# Altium schematic symbol library БУС.SchLib: 46 symbols
Pins are listed as number, name and electrical type; pins without a type are passive.

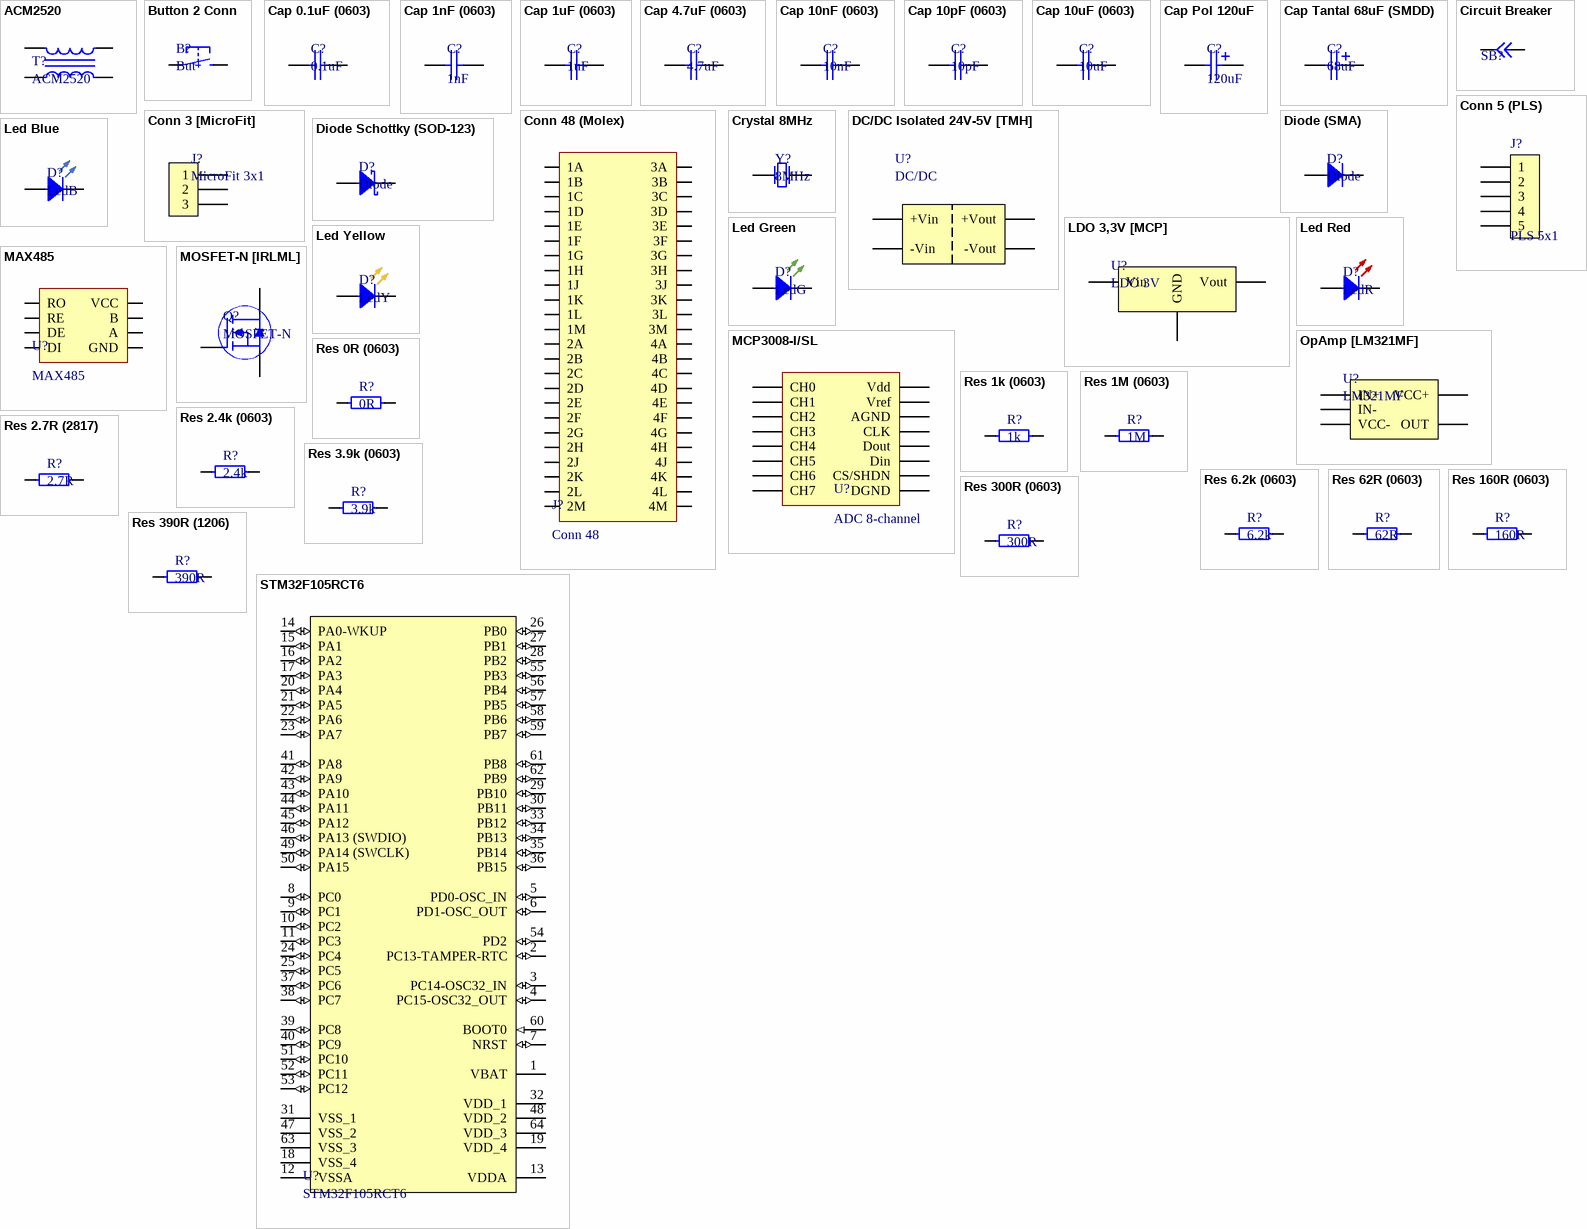
[diagram p0: symbols ACM2520 to STM32F105RCT6]

## ACM2520
designator T?
Common mode filters / Automotive signal line (for power train/safety); Manufacturer: TDK; Part Number: ACM2520-301-2P-T002; Type: Inductor; ComponentLink1Description: DataSheet; ComponentLink1URL: https://product.tdk.com/system/files/dam/doc/product/emc/emc/cmf_cmc/catalog/cmf_commercial_signal_acm2520_en.pdf; ComponentLink2Description: ChipDip; ComponentLink2URL: https://www.chipdip.ru/product0/8008480337?ysclid=lw4t4jsj9a923851487
footprint ACM2520
pins: 1, 2, 3, 4

## Button 2 Conn
designator B?, comment But
Button 2 Conn SMD; Part Number: L-KLS7-TS3608-5.0-180; Manufacturer: KLS electronic co ltd; Type: Button; ComponentLink1Description: Chip&Dip; ComponentLink1URL: https://www.chipdip.ru/product/kls7-ts3608-5.0-180-td-02xa
footprint BUTTON 6x3.5
pins: 1, 2

## Cap 0.1uF (0603)
designator C?, comment 0.1uF
0.1uF X7R 16V 10% 0603; Manufacturer: Murata Manufacturing; Part Number: GRM188R71C104KA01D; Type: Capacitor; ComponentLink1Description: Chip&Dip; ComponentLink1URL: https://www.chipdip.ru/product/grm188r71c104ka01d
footprint 0603 Capicator
pins: 1, 2

## Cap 1nF (0603)
designator C?, comment 1nF
X7R 1nF 100V 10% 0603; Manufacturer: Murata Manufacturing; Part Number: GRM188R72A102KA01D; Type: Capacitor; ComponentLink1Description: Chip&Dip; ComponentLink1URL: https://www.chipdip.ru/product/grm188r72a102ka01d
footprint 0603 Capicator
pins: 1, 2

## Cap 1uF (0603)
designator C?, comment 1uF
1uF X5R 25V 10% 0603; Manufacturer: Murata Manufacturing; Part Number: GRM188R61E105KAADD; Type: Capacitor; ComponentLink1Description: Chip&Dip; ComponentLink1URL: https://www.chipdip.ru/product/grm188r61e105k
footprint 0603 Capicator
pins: 1, 2

## Cap 4.7uF (0603)
designator C?, comment 4.7uF
4.7uF X5R 25V 10% 0603; Manufacturer: Murata Manufacturing; Part Number: GRM188R61E475KE11D; Type: Capacitor; ComponentLink1Description: Chip&Dip; ComponentLink1URL: https://www.chipdip.ru/product0/9000348448
footprint 0603 Capicator
pins: 1, 2

## Cap 10nF (0603)
designator C?, comment 10nF
10nF X7R  100V 10% 0603; Manufacturer: Murata Manufacturing; Part Number: GRM188R72A103KA01D; Type: Capacitor; ComponentLink1Description: Chip&Dip; ComponentLink1URL: https://www.chipdip.ru/product/grm188r72a103ka01d
footprint 0603 Capicator
pins: 1, 2

## Cap 10pF (0603)
designator C?, comment 10pF
10pF NP0 50V 5% 0603; Manufacturer: Murata Manufacturing; Part Number: GRM1885C1H100JA01D; Type: Capacitor; ComponentLink1Description: Chip&Dip; ComponentLink1URL: https://www.chipdip.ru/product/grm1885c1h100j
footprint 0603 Capicator
pins: 1, 2

## Cap 10uF (0603)
designator C?, comment 10uF
10uF X5R 25V 20% 0603; Manufacturer: Murata Manufacturing; Part Number: GRM188R61E106M; Type: Capacitor; ComponentLink1Description: Chip&Dip; ComponentLink1URL: https://www.chipdip.ru/product/grm188r61e106m
footprint 0603 Capicator
pins: 1, 2

## Cap Pol 120uF
designator C?, comment 120uF
Polymer capacitor with low E.S.R. Rated voltage - 80V.; Manufacturer: Matsushita; PartNumber: EEU-FS1K121LB; Type: Capacitor; ComponentLink1Description: ChipDip; ComponentLink1URL: https://www.chipdip.ru/product0/8001968680
footprint Bar Cap 8 mm
pins: 1, 2

## Cap Tantal 68uF (SMDD)
designator C?, comment 68uF
TECAP, 68uF, 16V, case D, 10%; Part Number: TECAP68/16VD10; Manufacturer: China; Type: Capacitor; ComponentLink1Description: Chip&Dip; ComponentLink1URL: https://www.chipdip.ru/product0/979125339
footprint TANTAL_D_CASE
pins: 1, 2

## Circuit Breaker
designator SB?  (value not drawn)
footprint SB 0603 (Jumper)
pins: 1, 2

## Conn 3 [MicroFit]
designator J?, comment MicroFit 3x1
Micro-Fit 3.0 Right-Angle Header, 3.00mm Pitch, Single Row, 3 Circuits, with Snap-in Plastic Peg PCB Lock, Tin, Glow-Wire Capable, Black; Part Number: 436500300; Manufacturer: Molex; ComponentLink1Description: Molex; ComponentLink1URL: https://www.molex.com/molex/products/part-detail/pcb_headers/0436500300; Type: Connector
footprint MolexMicroFit 3x1
pins: 1, 2, 3

## Conn 5 (PLS)
designator J?, comment PLS 5x1
Header, 5-Pin
footprint PLS 5x1 (Connector; Header; 5 Position)
pins: 1, 2, 3, 4, 5

## Conn 48 (Molex)
designator J?, comment Conn 48
Molec 48 pin PCB Header 5007620481; Manufacturer: Molex; Type: Connector; Part Number: 5007620481; ComponentLink1Description: ChipDip; ComponentLink1URL: https://www.chipdip.ru/product0/8004298252; ComponentLink2Description: Promelec; ComponentLink2URL: https://www.promelec.ru/product/427663/; ComponentLink3Description: Datasheet; ComponentLink3URL: https://static.chipdip.ru/lib/148/DOC030148367.pdf
footprint 5007620481 (Molex PCB Header 48 pin)
pins: 1A, 1B, 1C, 1D, 1E, 1F, 1G, 1H, 1J, 1K, 1L, 1M, 2A, 2B, 2C, 2D, 2E, 2F, 2G, 2H, 2J, 2K, 2L, 2M, 3A, 3B, 3C, 3D, 3E, 3F, 3G, 3H, 3J, 3K, 3L, 3M, 4A, 4B, 4C, 4D, 4E, 4F, 4G, 4H, 4J, 4K, 4L, 4M

## Crystal 8MHz
designator Y?, comment 8MHz
Crystal NX5032GA; Manufacturer: Nihon Dempa Kogio (NDK); Part Number: NX5032GA-8MHz; Type: Crystal; ComponentLink1Description: Chip&Dip; ComponentLink1URL: https://www.chipdip.ru/product0/9000523954
footprint NX5032GA (Crystal)
pins: 1, 2

## DC/DC Isolated 24V-5V [TMH]
designator U?, comment DC/DC
The TMH series are ultra miniature, isolated 2 Watt DC/DC-converters in a Single-in-Line  package  (SIP); Manufacturer: Traco Power; Part Number: TMH2405S; ComponentLink1Description: Chip&Dip; ComponentLink1URL: https://www.chipdip.ru/product/tmh-2405s; ComponentLink2Description: DataSheet; ComponentLink2URL: https://static.chipdip.ru/lib/005/DOC001005854.pdf; Type: IC
footprint SIP7
pins: 1 +Vin (power), 2 -Vin (power), 4 -Vout (power), 6 +Vout (power)

## Diode (SMA)
designator D?, comment Diode
1A 1000V, (DO-214AC/SMA); Part Number: 1N4007; Manufacturer: UMW; Type: Diode; ComponentLink1Description: DataSheet; ComponentLink1URL: https://static.chipdip.ru/lib/152/DOC001152906.pdf; ComponentLink2Description: Chip&Dip; ComponentLink2URL: https://www.chipdip.ru/product/1n4007-m7
footprint SMA
pins: 1, 2

## Diode Schottky (SOD-123)
designator D?, comment Diode
0.5 A, Low Forward Voltage less than 385 mV, 400 mW Power Dissipation Package; Part Number: MBR0520L; Manufacturer: ON Semiconductor; Type: Diode; ComponentLink1Description: DataSheet; ComponentLink1URL: http://www.farnell.com/datasheets/1875336.pdf; ComponentLink2Description: Chip&Dip; ComponentLink2URL: https://www.chipdip.ru/product/mbr0520l
footprint sod-123
pins: 1, 2

## LDO 3,3V [MCP]
designator U?, comment LDO 3V
MCP1702 Low Dropout Voltage Regulator. The input operating range is specifiedfrom 2.7V to 13.2V; Part Number: MCP1702T-3002E/CB; Manufacturer: Microchip; ComponentLink1Description: DataSheet; ComponentLink1URL: https://static.chipdip.ru/lib/986/DOC003986671.pdf; ComponentLink2Description: Chip&Dip; ComponentLink2URL: https://www.chipdip.ru/product/mcp1702t-3002e-cb-microchip
footprint SOT-23
pins: 1 GND (power), 2 Vout (power), 3 Vin (power)

## Led Blue
designator D?, comment LedB
SMD 1608, 112mcd, 120°, 630nM (Ultra Bright Blue); Part Number: TO-1608BC-MRE; Manufacturer: Taiwan Oasis Technology; Type: Diode; ComponentLink1Description: Chip&Dip; ComponentLink1URL: https://www.chipdip.ru/product/to-1608bc-mre
footprint 0603 LED
pins: 1, 2

## Led Green
designator D?, comment LedG
Led Green SMD 1608, 120°, 525nM; Part Number: TO-1608BC-PG; Manufacturer: Taiwan Oasis Technology; Type: Diode; ComponentLink1Description: Chip&Dip; ComponentLink1URL: https://www.chipdip.ru/product/to-1608bc-pg
footprint 0603 LED
pins: 1, 2

## Led Red
designator D?, comment LedR
SMD 1608, 112mcd, 120°, 630nM (Ultra Bright Red); Part Number: TO-1608BC-MRE; Manufacturer: Taiwan Oasis Technology; Type: Diode; ComponentLink1Description: Chip&Dip; ComponentLink1URL: https://www.chipdip.ru/product/to-1608bc-mre
footprint 0603 LED
pins: 1, 2

## Led Yellow
designator D?, comment LedY
SMD 1608, 247mcd, 120°, 592nM (High Bright Yellow); Part Number: TO-1608BC-MYF; Manufacturer: Taiwan Oasis Technology; Type: Diode; ComponentLink1Description: Chip&Dip; ComponentLink1URL: https://www.chipdip.ru/product/to-1608bc-myf
footprint 0603 LED
pins: 1, 2

## MAX485
designator U?
RS-485 tranciever; Manufacturer: Maxim; Part Number: MAX485CSA+T; Type: IC; ComponentLink1Description: ChipDip; ComponentLink1URL: https://www.chipdip.ru/product/max485csa; ComponentLink2Description: Datasheet; ComponentLink2URL: https://static.chipdip.ru/lib/222/DOC000222333.pdf
footprint SOIC-8
pins: 1 RO, 2 RE, 3 DE, 4 DI, 5 GND, 6 A, 7 B, 8 VCC

## MCP3008-I/SL
designator U?, comment ADC 8-channel
A/D converter with SPI serial interface; Manufacturer: Microchip; Part Number: MCP3008-I/SL; Type: IC; ComponentLink1Description: ChipDip; ComponentLink1URL: https://www.chipdip.ru/product/mcp3008-i-sl; ComponentLink2Description: Datadheet; ComponentLink2URL: https://static.chipdip.ru/lib/527/DOC011527685.pdf
footprint SOIC-16
pins: 1 CH0, 2 CH1, 3 CH2, 4 CH3, 5 CH4, 6 CH5, 7 CH6, 8 CH7, 9 DGND, 10 CS/SHDN, 11 Din, 12 Dout, 13 CLK, 14 AGND, 15 Vref, 16 Vdd

## MOSFET-N [IRLML]
designator Q?, comment MOSFET-N
VDS 30V,  VGS Max ± 20V, RDS 27-40mΩ,; Part Number: IRLML0030TRPBF; Manufacturer: Infineon Technologies; Type: Transistor; ComponentLink1Description: DataSheet; ComponentLink1URL: https://static.chipdip.ru/lib/300/DOC000300382.pdf; ComponentLink2Description: Chip&Dip; ComponentLink2URL: https://www.chipdip.ru/product/irlml0030trpbf
footprint SOT-23
pins: 1 Gate, 2 Source, 3 Drain

## OpAmp [LM321MF]
designator U?, comment LM321MF
Operational amplifier 30V; Manufacturer: UMW; Part Number: LM321MF; ComponentLink1Description: DataSheet; ComponentLink1URL: https://static.chipdip.ru/lib/039/DOC013039458.pdf; ComponentLink2Description: Chip&Dip; ComponentLink2URL: https://www.chipdip.ru/product/lm321mf; Type: IC
footprint SOT-23-5
pins: 1 IN+, 2 VCC-, 3 IN-, 4 OUT, 5 VCC+

## Res 0R (0603)
designator R?, comment 0R
0.1W 0603 0R, 5%; Part Number: RC0603JR-070RL; Manufacturer: Taiwan; Type: Resistor; ComponentLink1Description: Chip&Dip; ComponentLink1URL: https://www.chipdip.ru/product0/9000070541
footprint 0603 Resistor
pins: 1, 2

## Res 1k (0603)
designator R?, comment 1k
0.1W 0603 1k, 1%; Part Number: RC0603FR-071KL; Manufacturer: Taiwan; Type: Resistor; ComponentLink1Description: Chip&Dip; ComponentLink1URL: https://www.chipdip.ru/product0/9000079676
footprint 0603 Resistor
pins: 1, 2

## Res 1M (0603)
designator R?, comment 1M
0.1W 0603 1M, 1%; Part Number: RC0603FR-071ML; Manufacturer: Taiwan; Type: Resistor; ComponentLink1Description: Chip&Dip; ComponentLink1URL: https://www.chipdip.ru/product0/9000079784
footprint 0603 Resistor
pins: 1, 2

## Res 2.4k (0603)
designator R?, comment 2.4k
0.1W 0603 2.4k, 1%; Part Number: RC0603FR-072K4L; Manufacturer: Taiwan; Type: Resistor; ComponentLink1Description: Chip&Dip; ComponentLink1URL: https://www.chipdip.ru/product0/9000079721
footprint 0603 Resistor
pins: 1, 2

## Res 2.7R (2817)
designator R?, comment 2.7R
2W 2817 2.7R, 1%; Part Number: 35402R7FT; Manufacturer: TE Connectivity; Type: Resistor; ComponentLink1Description: Chip&Dip; ComponentLink1URL: https://www.chipdip.ru/product/35402r7ft
footprint 2817 RESISTOR (smd)
pins: 1, 2

## Res 3.9k (0603)
designator R?, comment 3.9k
0.1W 0603 3.9k, 1%; Part Number: RC0603FR-073K9L; Manufacturer: Taiwan; Type: Resistor; ComponentLink1Description: Chip&Dip; ComponentLink1URL: https://www.chipdip.ru/product0/9000079726
footprint 0603 Resistor
pins: 1, 2

## Res 6.2k (0603)
designator R?, comment 6.2k
0.1W 0603 6.2k, 1%; Part Number: RC0603FR-076K2L; Manufacturer: Taiwan; Type: Resistor; ComponentLink1Description: Chip&Dip; ComponentLink1URL: https://www.chipdip.ru/product/0.1w-0603-6.2-kom-1
footprint 0603 Resistor
pins: 1, 2

## Res 62R (0603)
designator R?, comment 62R
0.1W 0603 62R, 1%; Part Number: RC0603FR-0762RL; Manufacturer: Taiwan; Type: Resistor; ComponentLink1Description: Chip&Dip; ComponentLink1URL: https://www.chipdip.ru/product0/9000079611
footprint 0603 Resistor
pins: 1, 2

## Res 160R (0603)
designator R?, comment 160R
0.1W 0603 160R, 1%; Part Number: RC0603FR-07160RL; Manufacturer: Taiwan; Type: Resistor; ComponentLink1Description: Chip&Dip; ComponentLink1URL: https://www.chipdip.ru/product/0.1w-0603-160-om-1
footprint 0603 Resistor
pins: 1, 2

## Res 300R (0603)
designator R?, comment 300R
0.1W 0603 300R, 1%; Part Number: RC0603FR-07360RL; Manufacturer: Taiwan; Type: Resistor; ComponentLink1Description: Chip&Dip; ComponentLink1URL: https://www.chipdip.ru/product0/9000079629
footprint 0603 Resistor
pins: 1, 2

## Res 390R (1206)
designator R?, comment 390R
0.25W 1206 390R; Part Number: RC1206JR-07390KL; Manufacturer: Taiwan; Type: Resistor; ComponentLink1Description: Chip&Dip; ComponentLink1URL: https://www.chipdip.ru/product0/8023504304
footprint 1206 RESISTOR (smd)
pins: 1, 2

## STM32F105RCT6
designator U?
MCU ARM 256KB FLASH MEM 64-LQFP; Manufacturer: STMicroelectronics; Part Number: STM32F105RCT6; ComponentLink1Description: DataSheet; ComponentLink1URL: https://static.chipdip.ru/lib/375/DOC011375072.pdf; ComponentLink2Description: Chip&Dip; ComponentLink2URL: https://www.chipdip.ru/product/stm32f105rct6; Type: IC
footprint LQFP64
pins: 1 VBAT (power), 2 PC13-TAMPER-RTC (io) "PC13-TAMPER-RTC/PC13/TAMPER-RTC", 3 PC14-OSC32_IN (io) "PC14-OSC32_IN/PC14/OSC32_IN", 4 PC15-OSC32_OUT (io) "PC15-OSC32_OUT/PC15/OSC32_OUT", 5 PD0-OSC_IN (io) "PD0/OSC_IN", 6 PD1-OSC_OUT (io) "PD1/OSC_OUT", 7 NRST (io), 8 PC0 (io) "PC0/ADC12_IN10", 9 PC1 (io) "PC1/ADC12_IN11/ETH_MII_MDC/ETH_RMII_MDC", 10 PC2 (io) "PC2/ADC12_IN12/ETH_MII_TXD2", 11 PC3 (io) "PC3/ADC12_IN13/ETH_MII_TX_CLK", 12 VSSA (power), 13 VDDA (power), 14 PA0-WKUP (io) "PA0-WKUP/PA0/WKUP/USART2_CTS/ADC12_IN0/TIM2_CH1_ETR/TIM5_CH1/ETH_MII_CRS_WKUP", 15 PA1 (io) "PA1/USART2_RTS/ADC12_IN1/TIM5_CH2/TIM2_CH2/ETH_MII_RX_CLK/ETH_RMII_REF_CLK", 16 PA2 (io) "PA2/USART2_TX/TIM5_CH3/ADC12_IN2/TIM2_CH3/ETH_MII_MDIO/ETH_RMII_MDIO", 17 PA3 (io) "PA3/USART2_RX/TIM5_CH4/ADC12_IN3/TIM2_CH4/ETH_MII_COL", 18 VSS_4 (power), 19 VDD_4 (power), 20 PA4 (io) "PA4/SPI1_NSS/DAC_OUT1/USART2_CK/ADC12_IN4/SPI3_NSS/I2S3_WS", 21 PA5 (io) "PA5/SPI1_SCK/DAC_OUT2/ADC12_IN5", 22 PA6 (io) "PA6/SPI1_MISO/ADC12_IN6/TIM3_CH1/TIM1_BKIN", 23 PA7 (io) "PA7/SPI1_MOSI/ADC12_IN7/TIM3_CH2/ETH_MII_RX_DV/ETH_RMII_CRS_DV/TIM1_CH1N", 24 PC4 (io) "PC4/ADC12_IN14/ETH_MII_RXD0/ETH_RMII_RXD0", 25 PC5 (io) "PC5/ADC12_IN15/ETH_MII_RXD1/ETH_RMII_RXD1", 26 PB0 (io) "PB0/ADC12_IN8/TIM3_CH3/ETH_MII_RXD2/TIM1_CH2N", 27 PB1 (io) "PB1/ADC12_IN9/TIM3_CH4/ETH_MII_RXD3/TIM1_CH3N", 28 PB2 (io) "PB2/BOOT1", 29 PB10 (io) "PB10/I2C2_SCL/USART3_TX/ETH_MII_RX_ER/TIM2_CH3", 30 PB11 (io) "PB11/I2C2_SDA/USART3_RX/ETH_MII_TX_EN/ETH_RMII_TX_EN/TIM2_CH4", 31 VSS_1 (power), 32 VDD_1 (power), 33 PB12 (io) "PB12/SPI2_NSS/I2S2_WS/I2C2_SMBA/USART3_CK/TIM1_BKIN/CAN2_RX/ETH_MII_TXD0/ETH_RMII_TXD0", 34 PB13 (io) "PB13/SPI2_SCK/I2S2_CK/USART3_CTS/TIM1_CH1N/CAN2_TX/ETH_MII_TXD1/ETH_RMII_TXD1", 35 PB14 (io) "PB14/SPI2_MISO/TIM1_CH2N/USART3_RTS", 36 PB15 (io) "PB15/SPI2_MOSI/I2S2_SD/TIM1_CH3N", 37 PC6 (io) "PC6/I2S2_MCK/TIM3_CH1", 38 PC7 (io) "PC7/I2S3_MCK/TIM3_CH2", 39 PC8 (io) "PC8/TIM3_CH3", 40 PC9 (io) "PC9/TIM3_CH4", 41 PA8 (io) "PA8/USART1_CK/OTG_FS_SOF/TIM1_CH1/MCO", 42 PA9 (io) "PA9/USART1_TX/TIM1_CH2/OTG_FS_VBUS", 43 PA10 (io) "PA10/USART1_RX/TIM1_CH3/OTG_FS_ID", 44 PA11 (io) "PA11/USART1_CTS/CAN1_RX/TIM1_CH4/OTG_FS_DM", 45 PA12 (io) "PA12/USART1_RTS/OTG_FS_DP/CAN1_TX/TIM1_ETR", 46 PA13 (SWDIO) (io) "PA13/JTMS-SWDIO", 47 VSS_2 (power), 48 VDD_2 (power), 49 PA14 (SWCLK) (io) "PA14/JTCK-SWCLK", 50 PA15 (io) "PA15/JTDI/SPI3_NSS/I2S3_WS/TIM2_CH1_ETR/SPI1_NSS", 51 PC10 (io) "PC10/UART4_TX/USART3_TX/SPI3_SCK/I2S3_CK", 52 PC11 (io) "PC11/UART4_RX/USART3_RX/SPI3_MISO", 53 PC12 (io) "PC12/UART5_TX/USART3_CK/SPI3_MOSI/I2S3_SD", 54 PD2 (io) "PD2/TIM3_ETR/UART5_RX", 55 PB3 (io) "PB3/JTDO/SPI3_SCK/I2S3_CK/TRACESWO/TIM2_CH2/SPI1_SCK", 56 PB4 (io) "PB4/NJTRST/SPI3_MISO/TIM3_CH1/SPI1_MISO", 57 PB5 (io) "PB5/I2C1_SMBA/SPI3_MOSI/ETH_MII_PPS_OUT/I2S3_SD/ETH_RMII_PPS_OUT/TIM3_CH2/SPI1_MOSI/CAN2_RX", 58 PB6 (io) "PB6/I2C1_SCL/TIM4_CH1/USART1_TX/CAN2_TX", 59 PB7 (io) "PB7/I2C1_SDA/TIM4_CH2/USART1_RX", 60 BOOT0 (in), 61 PB8 (io) "PB8/TIM4_CH3/ETH_MII_TXD3/I2C1_SCL/CAN1_RX", 62 PB9 (io) "PB9/TIM4_CH4/I2C1_SDA/CAN1_TX", 63 VSS_3 (power), 64 VDD_3 (power)

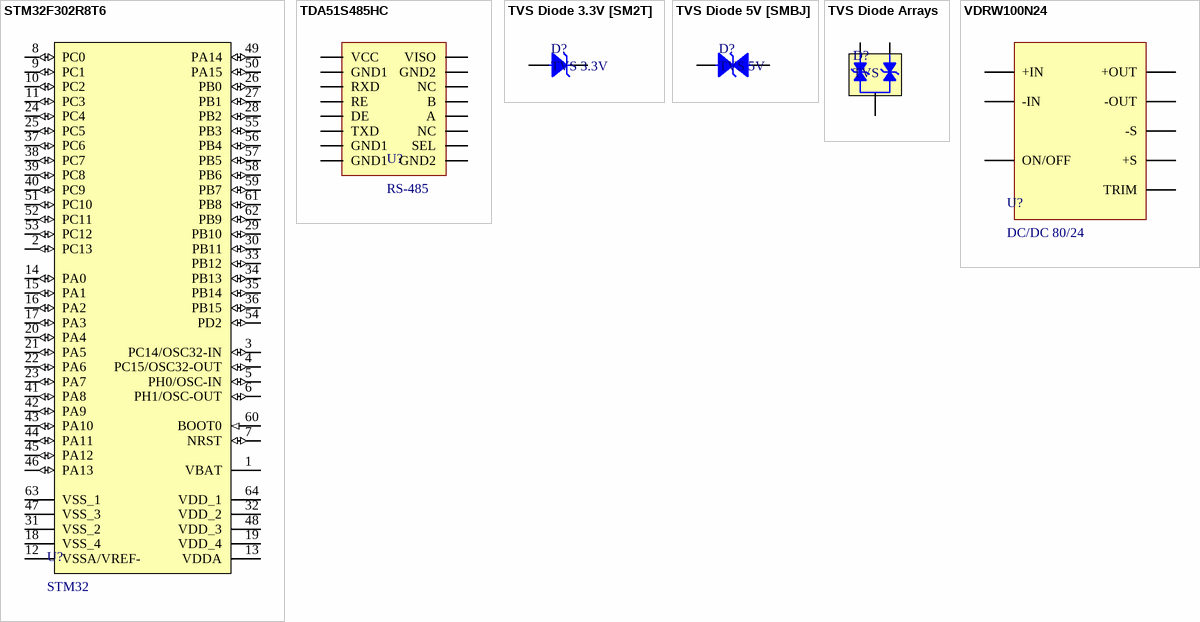
[diagram p1: symbols STM32F302R8T6 to VDRW100N24]

## STM32F302R8T6
designator U?, comment STM32
STM32F302R8T6 microcontroller in LQFP64 package; Manufacturer: STMicroelectronics; Type: Microcontroller; ComponentLink1Description: ChipDip; ComponentLink1URL: https://www.chipdip.ru/product0/8026343767; ComponentLink2Description: Datasheet; ComponentLink2URL: https://static.chipdip.ru/lib/171/DOC013171755.pdf; Part Number: STM32F302R8T6
footprint LQFP64
pins: 1 VBAT (power) "Backup power supply", 2 PC13 (io) "PA13/USART3_CTS,TIM4_CH3,TIM16_CH1N,TSC_G4_IO3,IR_OUT,SWDIO-JTMS,EVENTOUT", 3 PC14/OSC32-IN (io) "PA14/I2C1_SDA,USART2_TX,TIM8_CH2,TIM1_BKIN,TSC_G4_IO4,SWCLK-JTCK,EVENTOUT", 4 PC15/OSC32-OUT (io) "PA15/I2C1_SCL,SPI1_NSS,SPI3_NSS,I2S3_WS,JTDI,USART2_RX,TIM1_BKIN,TIM2_CH1_ETR,TIM8_CH1,EVENTOUT", 5 PH0/OSC-IN (io) "PF4/COMP1_OUT,EVENTOUT/ADC1_IN5", 6 PH1/OSC-OUT (io) "PC14-OSC32_IN(PC14)/OSC32_IN", 7 NRST (io) "Device reset input / internal reset output (active low)", 8 PC0 (io) "PA0/USART2_CTS,TIM2_CH1_ETR,TIM8_BKIN,TIM8_ETR,TSC_G1_IO1,COMP1_OUT,EVENTOUT/ADC1_IN1,COMP1_INM,RTC_TAMP2,WKUP1,COMP7_INP", 9 PC1 (io) "PA1/USART2_RTS,TIM2_CH2,TSC_G1_IO2,TIM15_CH1N,RTC_REFIN,EVENTOUT/ADC1_IN2,COMP1_INP,OPAMP1_VINP,OPAMP3_VINP", 10 PC2 (io) "PA2/USART2_TX,TIM2_CH3,TIM15_CH1,TSC_G1_IO3,COMP2_OUT,EVENTOUT/ADC1_IN3,COMP2_INM,OPAMP1_VOUT", 11 PC3 (io) "PA3/USART2_RX,TIM2_CH4,TIM15_CH2,TSC_G1_IO4,EVENTOUT/ADC1_IN4,OPAMP1_VINP,COMP2_INP,OPAMP1_VINM", 12 VSSA/VREF- (power) "Analog ground/Negative reference voltage", 13 VDDA (power) "Analog power supply/Positive reference voltage", 14 PA0 (io) "PC0/EVENTOUT/ADC12_IN6,COMP7_INM", 15 PA1 (io) "PC1/EVENTOUT/ADC12_IN7,COMP7_INP", 16 PA2 (io) "PC2/COMP7_OUT,EVENTOUT/ADC12_IN8", 17 PA3 (io) "PC3/TIM1_BKIN2,EVENTOUT/ADC12_IN9", 18 VSS_4 (power) "Digital ground", 19 VDD_4 (power) "Digital power supply", 20 PA4 (io) "PC4/USART1_TX,EVENTOUT/ADC2_IN5", 21 PA5 (io) "PC5/USART1_RX,TSC_G3_IO1,EVENTOUT/ADC2_IN11,OPAMP2_VINM,OPAMP1_VINM", 22 PA6 (io) "PC7/I2S3_MCK,TIM8_CH2,TIM3_CH2,COMP5_OUT,EVENTOUT", 23 PA7 (io) "PC6/I2S2_MCK,COMP6_OUT,TIM8_CH1,TIM3_CH1,EVENTOUT", 24 PC4 (io) "PA4/SPI1_NSS,SPI3_NSS,I2S3_WS,USART2_CK,TSC_G2_IO1,TIM3_CH2,EVENTOUT/ADC2_IN1,DAC1_OUT1,OPAMP4_VINP,COMP1_INM,COMP2_INM,COMP3_INM,COMP4_INM,COMP5_INM,COMP6_INM,COMP7_INM", 25 PC5 (io) "PA5/SPI1_SCK,TIM2_CH1_ETR,TSC_G2_IO2,EVENTOUT/ADC2_IN2,DAC1_OUT2,OPAMP1_VINP,OPAMP2_VINM,OPAMP3_VINP,COMP1_INM,COMP2_INM,COMP3_INM,COMP4_INM,COMP5_INM,COMP6_INM,COMP7_INM", 26 PB0 (io) "PB2/TSC_G3_IO4,EVENTOUT/ADC2_IN12,COMP4_INM,OPAMP3_VINM", 27 PB1 (io) "PB3/SPI3_SCK,I2S3_CK,SPI1_SCK,USART2_TX,TIM2_CH2,TIM3_ETR,TIM4_ETR,TIM8_CH1N,TSC_G5_IO1,JTDO-TRACESWO,EVENTOUT", 28 PB2 (io) "PB4/SPI3_MISO,I2S3ext_SD,SPI1_MISO,USART2_RX,TIM3_CH1,TIM16_CH1,TIM17_BKIN,TIM8_CH2N,TSC_G5_IO2,NJTRST,EVENTOUT", 29 PB10 (io) "PB12/SPI2_NSS,I2S2_WS,I2C2_SMBA,USART3_CK,TIM1_BKIN,TSC_G6_IO2,EVENTOUT/ADC4_IN3,COMP3_INM,OPAMP4_VOUT", 30 PB11 (io) "Analog power supply/Positive reference voltage", 31 VSS_2 (power) "Digital ground", 32 VDD_2 (power) "Digital power supply", 33 PB12 (io) "PB13/SPI2_SCK,I2S2_CK,USART3_CTS,TIM1_CH1N,TSC_G6_IO3,EVENTOUT/ADC3_IN5,COMP5_INP,OPAMP4_VINP,OPAMP3_VINP", 34 PB13 (io) "PB14/SPI2_MISO,I2S2ext_SD,USART3_RTS,TIM1_CH2N,TIM15_CH1,TSC_G6_IO4,EVENTOUT/COMP3_INP,ADC4_IN4,OPAMP2_VINP", 35 PB14 (io) "PB15/SPI2_MOSI,I2S2_SD,TIM1_CH3N,RTC_REFIN,TIM15_CH1N,TIM15_CH2,EVENTOUT/ADC4_IN5,COMP6_INM", 36 PB15 (io) "PD2/UART5_RX,TIM3_ETR,TIM8_BKIN,EVENTOUT", 37 PC6 (io) "PA6/SPI1_MISO,TIM3_CH1,TIM8_BKIN,TIM1_BKIN,TIM16_CH1,COMP1_OUT,TSC_G2_IO3,EVENTOUT/ADC2_IN3,OPAMP2_VOUT", 38 PC7 (io) "PA7/SPI1_MOSI,TIM3_CH2,TIM17_CH1,TIM1_CH1N,TIM8_CH1N,TSC_G2_IO4,COMP2_OUT,EVENTOUT/ADC2_IN4,COMP2_INP,OPAMP2_VINP,OPAMP1_VINP", 39 PC8 (io) "PA8/I2C2_SMBA,I2S2_MCK,USART1_CK,TIM1_CH1,TIM4_ETR,MCO,COMP3_OUT,EVENTOUT", 40 PC9 (io) "PA9/I2C2_SCL,I2S3_MCK,USART1_TX,TIM1_CH2,TIM2_CH3,TIM15_BKIN,TSC_G4_IO1,COMP5_OUT,EVENTOUT", 41 PA8 (io) "PC8/TIM8_CH3,TIM3_CH3,COMP3_OUT,EVENTOUT", 42 PA9 (io) "PC9/TIM8_CH4,TIM8_BKIN2,TIM3_CH4,I2S_CKIN,EVENTOUT", 43 PA10 (io) "PC10/SPI3_SCK,I2S3_CK,USART3_TX,UART4_TX,TIM8_CH1N,EVENTOUT", 44 PA11 (io) "PC11/SPI3_MISO,I2S3ext_SD,USART3_RX,UART4_RX,TIM8_CH2N,EVENTOUT", 45 PA12 (io) "PC12/SPI3_MOSI,I2S3_SD,USART3_CK,UART5_TX,TIM8_CH3N,EVENTOUT", 46 PA13 (io) "PC13/TIM1_CH1N/WKUP2,RTC_TAMP1,RTC_TS,RTC_OUT", 47 VSS_3 (power) "Ground", 48 VDD_3 (power) "Digital power supply", 49 PA14 (io) "PB0/TIM3_CH3,TIM1_CH2N,TIM8_CH2N,TSC_G3_IO2,EVENTOUT/ADC3_IN12,COMP4_INP,OPAMP3_VINP,OPAMP2_VINP", 50 PA15 (io) "PB1/TIM3_CH4,TIM1_CH3N,TIM8_CH3N,COMP4_OUT,TSC_G3_IO3,EVENTOUT/ADC3_IN1,OPAMP3_VOUT", 51 PC10 (io) "PA10/I2C2_SDA,USART1_RX,TIM1_CH3,TIM2_CH4,TIM8_BKIN,TIM17_BKIN,TSC_G4_IO2,COMP6_OUT,EVENTOUT", 52 PC11 (io) "PA11/USART1_CTS,USB_DM,CAN_RX,TIM1_CH1N,TIM1_CH4,TIM1_BKIN2,TIM4_CH1,COMP1_OUT,EVENTOUT", 53 PC12 (io) "PA12/USART1_RTS,USB_DP,CAN_TX,TIM1_CH2N,TIM1_ETR,TIM4_CH2,TIM16_CH1,COMP2_OUT,EVENTOUT", 54 PD2 (io) "PC15-OSC32_OUT(PC15)/OSC32_OUT", 55 PB3 (io) "PB5/SPI3_MOSI,SPI1_MOSI,I2S3_SD,I2C1_SMBA,USART2_CK,TIM16_BKIN,TIM3_CH2,TIM8_CH3N,TIM17_CH1,EVENTOUT", 56 PB4 (io) "PB6/I2C1_SCL,USART1_TX,TIM16_CH1N,TIM4_CH1,TIM8_CH1,TSC_G5_IO3,TIM8_ETR,TIM8_BKIN2,EVENTOUT", 57 PB5 (io) "PB7/I2C1_SDA,USART1_RX,TIM3_CH4,TIM4_CH2,TIM17_CH1N,TIM8_BKIN,TSC_G5_IO4,EVENTOUT", 58 PB6 (io) "PB8/I2C1_SCL,CAN_RX,TIM16_CH1,TIM4_CH3,TIM8_CH2,TIM1_BKIN,TSC_SYNC,COMP1_OUT,EVENTOUT", 59 PB7 (io) "PB9/I2C1_SDA,CAN_TX,TIM17_CH1,TIM4_CH4,TIM8_CH3,IR_OUT,COMP2_OUT,EVENTOUT", 60 BOOT0 (in) "Boot memory selection", 61 PB8 (io) "PB10/USART3_TX,TIM2_CH3,TSC_SYNC,EVENTOUT/COMP5_INM,OPAMP4_VINM,OPAMP3_VINM", 62 PB9 (io) "PB11/USART3_RX,TIM2_CH4,TSC_G6_IO1,EVENTOUT/COMP6_INP,OPAMP4_VINP", 63 VSS_1 (power) "Ground", 64 VDD_1 (power) "Digital power supply"

## TDA51S485HC
designator U?, comment RS-485
Isolated RS-485 Half-Duplex tranciever; Manufacturer: Mornsun; Part Number: TDA51S485HC; Type: IC; ComponentLink1Description: ChipDip; ComponentLink1URL: https://www.chipdip.ru/product0/8009281357; ComponentLink2Description: Datasheet; ComponentLink2URL: https://www.mornsun-power.com/html/pdf/TDA51S485HC.html
footprint SOIC16W
pins: 1 VCC, 2 GND1, 3 RXD, 4 RE, 5 DE, 6 TXD, 7 GND1, 8 GND1, 9 GND2, 10 SEL, 11 NC, 12 A, 13 B, 14 NC, 15 GND2, 16 VISO

## TVS Diode 3.3V [SM2T]
designator D?, comment TVS 3.3V
High peak pulse power: 200 W (10/1000 μs); Part Number: SM2T3V3A; Manufacturer: STMicroelectronics; Type: Diode; ComponentLink1Description: DataSheet; ComponentLink1URL: https://www.st.com/resource/en/datasheet/sm2t3v3a.pdf; ComponentLink2Description: Chip&Dip; ComponentLink2URL: https://www.chipdip.ru/product0/8283670575
footprint DO-216AA
pins: 1, 2

## TVS Diode 5V [SMBJ]
designator D?, comment TVS 5V
Peak pulse power: 600 W (10/1000 μs), 4 kW (8/20 μs); Part Number: SMBJ5.0CA-TR; Manufacturer: STMicroelectronics; Type: Diode; ComponentLink1Description: DataSheet; ComponentLink1URL: https://static6.arrow.com/aropdfconversion/ee4838c0939fd68177ef9747b63ca424c7b9f39b/519651672847221cd0000.pdf; ComponentLink2Description: Chip&Dip; ComponentLink2URL: https://www.chipdip.ru/product/smbj5.0ca-tr
footprint SMB
pins: 1, 2

## TVS Diode Arrays
designator D?, comment TVS
The SM24CANB TVS Diode Array is designed to protect automotive Controller Area Network (CAN) lines from damage due to electrostatic discharge (ESD), electrical fast transient (EFT), and other overvoltage transients.; Part Number: SM24CANB-02HTG; Manufacturer: Littelfuse; Type: Diode; ComponentLink1Description: DataSheet; ComponentLink1URL: https://m.littelfuse.com/~/media/electronics/datasheets/tvs_diode_arrays/littelfuse_tvs_diode_array_sm24canb_datasheet.pdf.pdf; ComponentLink2Description: Chip&Dip; ComponentLink2URL: https://www.chipdip.ru/product1/8001779022
footprint SOT-23
pins: 1, 2, 3

## VDRW100N24
designator U?, comment DC/DC 80/24
DC/DC converter by railway standart 80/24 100W; Manufacturer: Voltbricks; Part Number: VDRW100N24; ComponentLink1Description: ChipDip; ComponentLink1URL: https://www.chipdip.ru/product0/8010031042; Type: IC; ComponentLink2Description: Datasheet; ComponentLink2URL: https://static.chipdip.ru/lib/430/DOC016430978.pdf
footprint VDRW100
pins: 1 +IN, 2 ON/OFF, 3 -IN, 4 -OUT, 5 -S, 6 TRIM, 7 +S, 8 +OUT